# EAGLE library part BH-10 (library gost_con_bh)
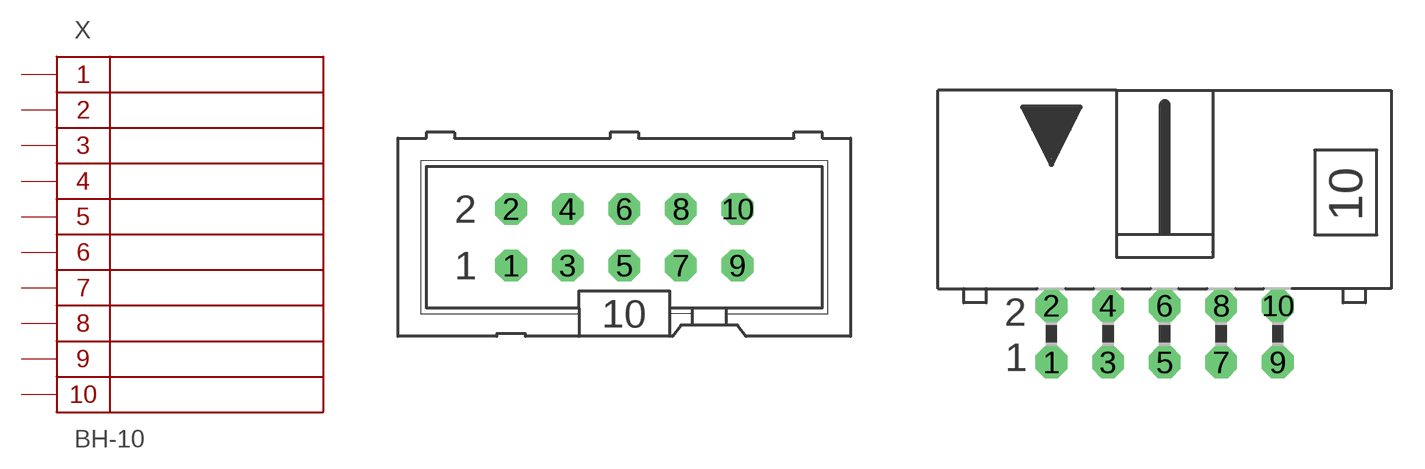
[diagram p0: symbol with the pads of BH-10; footprints BH-10, BH-10R]

Designator prefix X

## BH-10  [BH-10]
1  1
2  2
3  3
4  4
5  5
6  6
7  7
8  8
9  9
10  10

## BH-10R  [BH-10R]
Pads as for BH-10

## Footprint BH-10 (pad centres in mm)
Разъем BH-10 2.54mm
drill 0.914 octagon: 1 -5.08,-1.27; 2 -5.08,1.27; 3 -2.54,-1.27; 4 -2.54,1.27; 5 0,-1.27; 6 0,1.27; 7 2.54,-1.27; 8 2.54,1.27; 9 5.08,-1.27; 10 5.08,1.27

## Footprint BH-10R (pad centres in mm)
Разъем BH-10R 2.54mm
drill 0.914 octagon: 1 -5.08,-1.27; 2 -5.08,1.27; 3 -2.54,-1.27; 4 -2.54,1.27; 5 0,-1.27; 6 0,1.27; 7 2.54,-1.27; 8 2.54,1.27; 9 5.08,-1.27; 10 5.08,1.27